# EAGLE library part BREAKOUT_BLE (library FaBo-Boards)
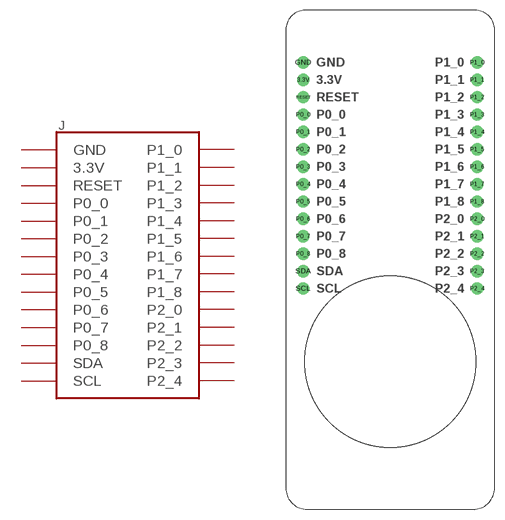
[diagram p16: symbol with the pads of BREAKOUT_BLE; footprint BREAKOUT_BLE]

Designator prefix J

## BREAKOUT_BLE  [BREAKOUT_BLE]
3.3V  3.3V
GND  GND
P0_0  P0_0
P0_1  P0_1
P0_2  P0_2
P0_3  P0_3
P0_4  P0_4
P0_5  P0_5
P0_6  P0_6
P0_7  P0_7
P0_8  P0_8
P1_0  P1_0
P1_1  P1_1
P1_2  P1_2
P1_3  P1_3
P1_4  P1_4
P1_5  P1_5
P1_6  P1_6
P1_7  P1_7
P1_8  P1_8
P2_0  P2_0
P2_1  P2_1
P2_2  P2_2
P2_3  P2_3
P2_4  P2_4
RESET  RESET
SCL  SCL
SDA  SDA

## Footprint BREAKOUT_BLE (pad centres in mm)
drill 1.2: 3.3V -12.7,10.16; GND -12.7,12.7; P0_0 -12.7,5.08; P0_1 -12.7,2.54; P0_2 -12.7,0; P0_3 -12.7,-2.54; P0_4 -12.7,-5.08; P0_5 -12.7,-7.62; P0_6 -12.7,-10.16; P0_7 -12.7,-12.7; P0_8 -12.7,-15.24; P1_0 12.7,12.7; P1_1 12.7,10.16; P1_2 12.7,7.62; P1_3 12.7,5.08; P1_4 12.7,2.54; P1_5 12.7,0; P1_6 12.7,-2.54; P1_7 12.7,-5.08; P1_8 12.7,-7.62; P2_0 12.7,-10.16; P2_1 12.7,-12.7; P2_2 12.7,-15.24; P2_3 12.7,-17.78; P2_4 12.7,-20.32; RESET -12.7,7.62; SCL -12.7,-20.32; SDA -12.7,-17.78